# Altium schematic symbol library stepdown_DSUN.SchLib: 1 symbol
Pins are listed as number, name and electrical type; pins without a type are passive.

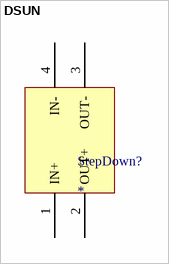
[diagram p0: symbol DSUN]

## DSUN
designator StepDown?
SD
footprint PCBComponent_1
pins: 1 IN+, 2 OUT+, 3 OUT-, 4 IN-